# Altium integrated library Analog Devices Amplifiers and Linear Voltage References.IntLib: 547 symbols (part 9 of 20)
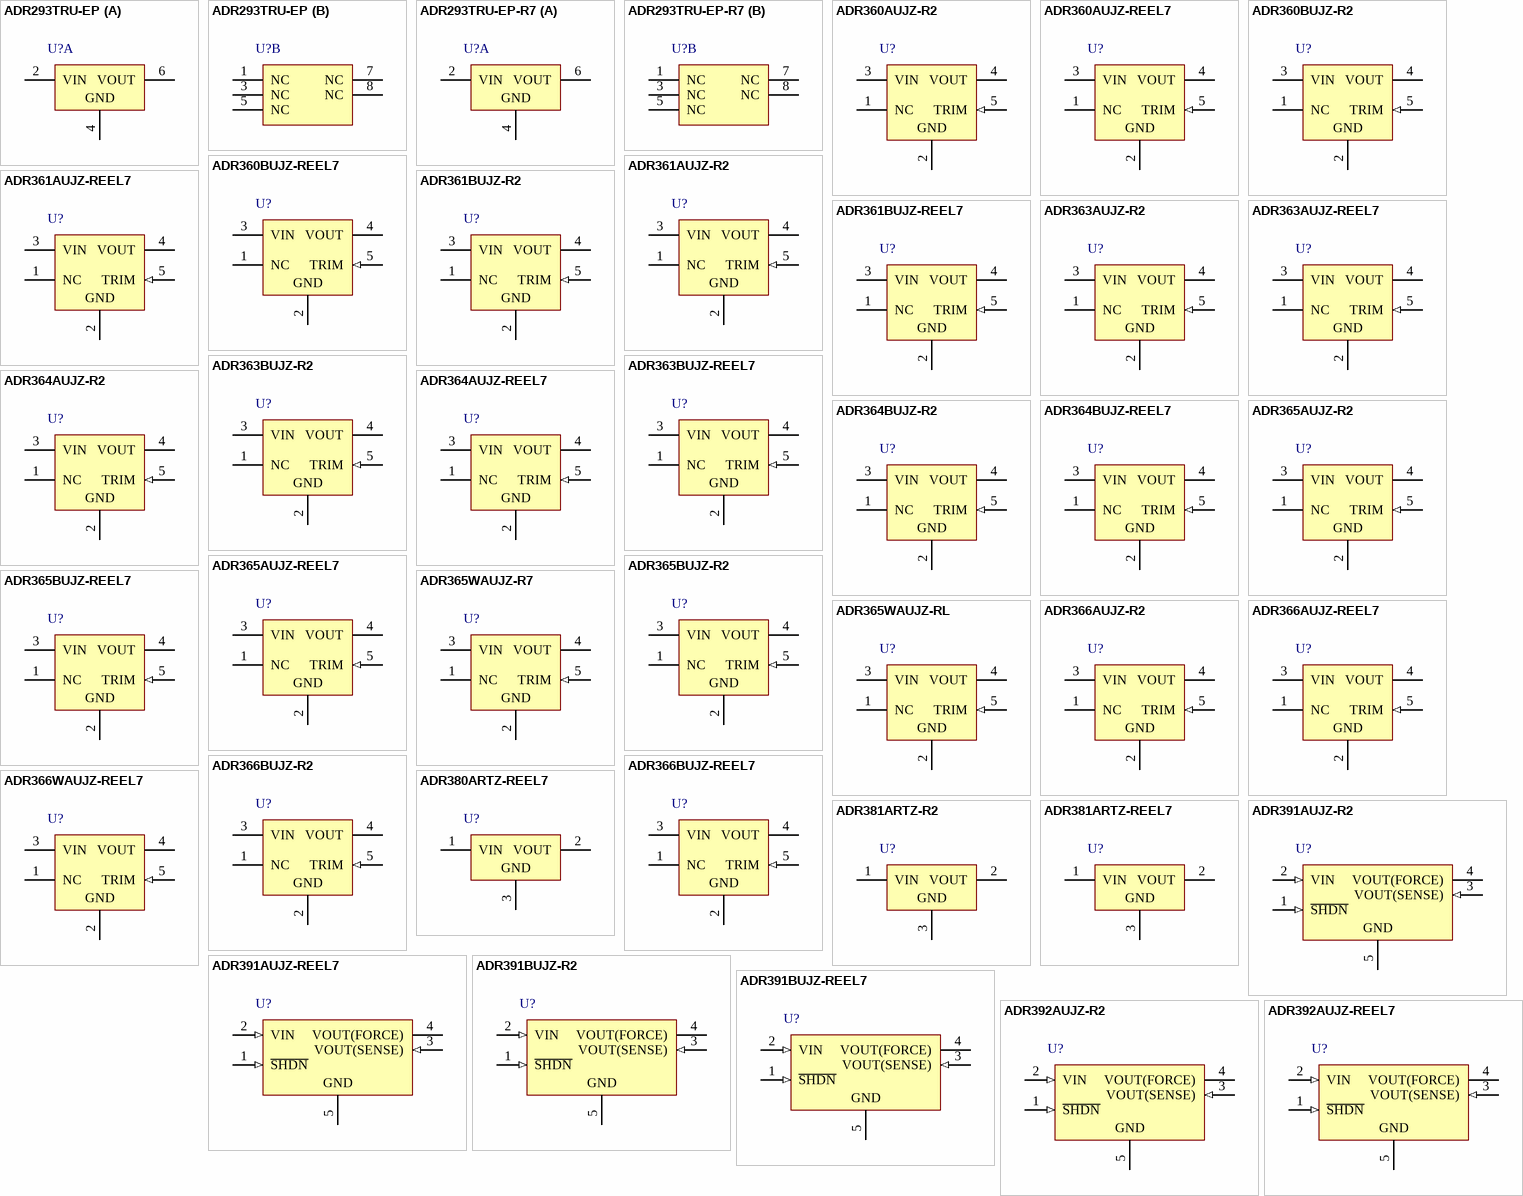
[diagram p28: symbols ADR293TRU-EP to ADR392AUJZ-REEL7]

## ADR366BUJZ-R2
designator U?
Low Power, Low Noise Voltage Reference with Sink / Source Capability, 3.3 V Output, 3.6 to 15 V Supply, Industrial, 5-pin SOT23 (UJ-5), Reel; Manufacturer: Analog Devices; PartNumber: ADR366BUJZ-R2; Automotive Qualified: Yes; Max V Supply (V): 15; Min V Supply (V): 3.6; Ref Out TC (ppm/C): 9; Vout: 3.3V; DatasheetVersion: Rev. D; PackageVersion: 100708-A, 10/2008; PackageReference: UJ-5; PackageDescription: 5-Pin Thin Small Outline Transistor Package, Body 2.9 x 1.6 mm, Pitch 0.95 mm; Supplier 1: Digi-Key; Supplier Part Number 1: ADR366BUJZ-R2TR-ND; Supplier 2: Digi-Key; Supplier Part Number 2: ADR366BUJZ-R2CT-ND; Supplier 3: Digi-Key; Supplier Part Number 3: ADR366BUJZ-R2DKR-ND; Supplier 4: Farnell; Supplier Part Number 4: 2377042; Supplier 5: Mouser; Supplier Part Number 5: 584-ADR366BUJZ-R2; Packing: Reel; Operating Temp Range: -40 to 125 degC; Mounting Technology: Surface Mount; Code_JEDEC: MO-193-AB; ComponentLink1Description: Manufacturer URL; ComponentLink1URL: http://www.analog.com/en/index.html; ComponentLink2Description: Datasheet; ComponentLink2URL: http://www.analog.com/static/imported-files/data_sheets/ADR360_361_363_364_365_366.pdf; ComponentLink3Description: Package Specification; ComponentLink3URL: http:/www.analog.com/static/imported-files/packages/PKG_PDF/TSOT(UJ)/UJ_5.pdf; ComponentLink4Description: URL Link1; ComponentLink4URL: Product URL:http://www.analog.com/en/special-linear-functions/voltage-references/adr366/products/product.html
footprint ADI-UJ-5_N (SOT23, 5-Leads, Body 2.9x1.6mm, Pitch 0.95mm, IPC Medium Density)
footprint ADI-UJ-5_L (SOT23, 5-Leads, Body 2.9x1.6mm, Pitch 0.95mm, IPC High Density)
footprint ADI-UJ-5_M (SOT23, 5-Leads, Body 2.9x1.6mm, Pitch 0.95mm, IPC Low Density)
pins: 1 NC, 2 GND (power), 3 VIN (power), 4 VOUT (power), 5 TRIM (in)

## ADR366BUJZ-REEL7
designator U?
Low Power, Low Noise Voltage Reference with Sink / Source Capability, 3.3 V Output, 3.6 to 15 V Supply, Industrial, 5-pin SOT23 (UJ-5), Reel; Manufacturer: Analog Devices; PartNumber: ADR366BUJZ-REEL7; Automotive Qualified: Yes; Max V Supply (V): 15; Min V Supply (V): 3.6; Ref Out TC (ppm/C): 9; Vout: 3.3V; DatasheetVersion: Rev. D; PackageVersion: 100708-A, 10/2008; PackageReference: UJ-5; PackageDescription: 5-Pin Thin Small Outline Transistor Package, Body 2.9 x 1.6 mm, Pitch 0.95 mm; Supplier 1: Digi-Key; Supplier Part Number 1: ADR366BUJZ-REEL7TR-ND; Supplier 2: Digi-Key; Supplier Part Number 2: ADR366BUJZ-REEL7CT-ND; Supplier 3: Digi-Key; Supplier Part Number 3: ADR366BUJZ-REEL7DKR-ND; Supplier 4: Mouser; Supplier Part Number 4: 584-ADR366BUJZ-R7; Packing: Reel; Operating Temp Range: -40 to 125 degC; Mounting Technology: Surface Mount; Code_JEDEC: MO-193-AB; ComponentLink1Description: Manufacturer URL; ComponentLink1URL: http://www.analog.com/en/index.html; ComponentLink2Description: Datasheet; ComponentLink2URL: http://www.analog.com/static/imported-files/data_sheets/ADR360_361_363_364_365_366.pdf; ComponentLink3Description: Package Specification; ComponentLink3URL: http:/www.analog.com/static/imported-files/packages/PKG_PDF/TSOT(UJ)/UJ_5.pdf; ComponentLink4Description: URL Link1; ComponentLink4URL: Product URL:http://www.analog.com/en/special-linear-functions/voltage-references/adr366/products/product.html
footprint ADI-UJ-5_N (SOT23, 5-Leads, Body 2.9x1.6mm, Pitch 0.95mm, IPC Medium Density)
footprint ADI-UJ-5_L (SOT23, 5-Leads, Body 2.9x1.6mm, Pitch 0.95mm, IPC High Density)
footprint ADI-UJ-5_M (SOT23, 5-Leads, Body 2.9x1.6mm, Pitch 0.95mm, IPC Low Density)
pins: 1 NC, 2 GND (power), 3 VIN (power), 4 VOUT (power), 5 TRIM (in)

## ADR366WAUJZ-REEL7
designator U?
Low Power, Low Noise Voltage Reference with Sink / Source Capability, 3.3 V Output, 3.6 to 15 V Supply, Automotive, 5-pin SOT23 (UJ-5), Reel; Manufacturer: Analog Devices; PartNumber: ADR366WAUJZ-REEL7; Automotive Qualified: Yes; Max V Supply (V): 15; Min V Supply (V): 3.6; Ref Out TC (ppm/C): 25; Vout: 3.3V; DatasheetVersion: Rev. D; PackageVersion: 100708-A, 10/2008; PackageReference: UJ-5; PackageDescription: 5-Pin Thin Small Outline Transistor Package, Body 2.9 x 1.6 mm, Pitch 0.95 mm; Supplier 1: Digi-Key; Supplier Part Number 1: ADR366WAUJZ-REEL7TR-ND; Supplier 2: Digi-Key; Supplier Part Number 2: ADR366WAUJZ-REEL7CT-ND; Supplier 3: Digi-Key; Supplier Part Number 3: ADR366WAUJZ-REEL7DKR-ND; Supplier 4: Mouser; Supplier Part Number 4: 584-ADR366WAUJZ-R7; Packing: Reel; Operating Temp Range: -40 to 125 degC; Mounting Technology: Surface Mount; Code_JEDEC: MO-193-AB; ComponentLink1Description: Manufacturer URL; ComponentLink1URL: http://www.analog.com/en/index.html; ComponentLink2Description: Datasheet; ComponentLink2URL: http://www.analog.com/static/imported-files/data_sheets/ADR360_361_363_364_365_366.pdf; ComponentLink3Description: Package Specification; ComponentLink3URL: http:/www.analog.com/static/imported-files/packages/PKG_PDF/TSOT(UJ)/UJ_5.pdf; ComponentLink4Description: URL Link1; ComponentLink4URL: Product URL:http://www.analog.com/en/special-linear-functions/voltage-references/adr366/products/product.html
footprint ADI-UJ-5_N (SOT23, 5-Leads, Body 2.9x1.6mm, Pitch 0.95mm, IPC Medium Density)
footprint ADI-UJ-5_L (SOT23, 5-Leads, Body 2.9x1.6mm, Pitch 0.95mm, IPC High Density)
footprint ADI-UJ-5_M (SOT23, 5-Leads, Body 2.9x1.6mm, Pitch 0.95mm, IPC Low Density)
pins: 1 NC, 2 GND (power), 3 VIN (power), 4 VOUT (power), 5 TRIM (in)

## ADR380ARTZ-REEL7
designator U?
Precision Low Drift Voltage Reference, 2.048 V Output, 2.4 to 18 V Supply, Industrial, 3-pin SOT23 (RT-3), Reel; Manufacturer: Analog Devices; PartNumber: ADR380ARTZ-REEL7; Max V Supply (V): 18; Min V Supply (V): 2.4; Ref Out TC (ppm/C): 5; Vout: 2.048; DatasheetVersion: Rev. C; PackageVersion: 011909-C, 02/2009; PackageReference: RT-3; PackageDescription: 3-Pin Small Outline Transistor Package, Body 2.9 x 1.3 mm, Pitch 0.96 mm; Supplier 1: Digi-Key; Supplier Part Number 1: ADR380ARTZ-REEL7TR-ND; Supplier 2: Digi-Key; Supplier Part Number 2: ADR380ARTZ-REEL7CT-ND; Supplier 3: Digi-Key; Supplier Part Number 3: ADR380ARTZ-REEL7DKR-ND; Supplier 4: Farnell; Supplier Part Number 4: 2377026; Supplier 5: Mouser; Supplier Part Number 5: 584-ADR380ARTZ-R7; Packing: Reel; Operating Temp Range: -40 to +85 degC; Mounting Technology: Surface Mount; Code_JEDEC: TO-236-AB; ComponentLink1Description: Manufacturer URL; ComponentLink1URL: http://www.analog.com/en/index.html; ComponentLink2Description: Datasheet; ComponentLink2URL: http://www.analog.com/static/imported-files/data_sheets/ADR380_381.pdf; ComponentLink3Description: Package Specification; ComponentLink3URL: http:/www.analog.com/static/imported-files/packages/PKG_PDF/SOT-23-3 (RT)/RT_3.pdf; ComponentLink4Description: URL Link1; ComponentLink4URL: Product URL:http://www.analog.com/en/special-linear-functions/voltage-references/adr380/products/product.html
footprint ADI-RT-3_N (SOT23, 3-Leads, Body 2.9x1.3mm, Pitch 0.96mm, IPC Medium Density)
footprint ADI-RT-3_L (SOT23, 3-Leads, Body 2.9x1.3mm, Pitch 0.96mm, IPC High Density)
footprint ADI-RT-3_M (SOT23, 3-Leads, Body 2.9x1.3mm, Pitch 0.96mm, IPC Low Density)
pins: 1 VIN (power), 2 VOUT (power), 3 GND (power)

## ADR381ARTZ-R2
designator U?
Precision Low Drift Voltage Reference, 2.5 V Output, 2.8 to 18 V Supply, Industrial, 3-pin SOT23 (RT-3), Reel; Manufacturer: Analog Devices; PartNumber: ADR381ARTZ-R2; Max V Supply (V): 18; Min V Supply (V): 2.8; Ref Out TC (ppm/C): 5; Vout: 2.5; DatasheetVersion: Rev. C; PackageVersion: 011909-C, 02/2009; PackageReference: RT-3; PackageDescription: 3-Pin Small Outline Transistor Package, Body 2.9 x 1.3 mm, Pitch 0.96 mm; Supplier 1: Digi-Key; Supplier Part Number 1: ADR381ARTZ-R2TR-ND; Supplier 2: Digi-Key; Supplier Part Number 2: ADR381ARTZ-R2CT-ND; Supplier 3: Digi-Key; Supplier Part Number 3: ADR381ARTZ-R2DKR-ND; Supplier 4: Farnell; Supplier Part Number 4: 2377037; Supplier 5: Mouser; Supplier Part Number 5: 584-ADR381ARTZ-R2; Packing: Reel; Operating Temp Range: -40 to +85 degC; Mounting Technology: Surface Mount; Code_JEDEC: TO-236-AB; ComponentLink1Description: Manufacturer URL; ComponentLink1URL: http://www.analog.com/en/index.html; ComponentLink2Description: Datasheet; ComponentLink2URL: http://www.analog.com/static/imported-files/data_sheets/ADR380_381.pdf; ComponentLink3Description: Package Specification; ComponentLink3URL: http:/www.analog.com/static/imported-files/packages/PKG_PDF/SOT-23-3 (RT)/RT_3.pdf; ComponentLink4Description: URL Link1; ComponentLink4URL: Product URL:http://www.analog.com/en/special-linear-functions/voltage-references/adr381/products/product.html
footprint ADI-RT-3_N (SOT23, 3-Leads, Body 2.9x1.3mm, Pitch 0.96mm, IPC Medium Density)
footprint ADI-RT-3_L (SOT23, 3-Leads, Body 2.9x1.3mm, Pitch 0.96mm, IPC High Density)
footprint ADI-RT-3_M (SOT23, 3-Leads, Body 2.9x1.3mm, Pitch 0.96mm, IPC Low Density)
pins: 1 VIN (power), 2 VOUT (power), 3 GND (power)

## ADR381ARTZ-REEL7
designator U?
Precision Low Drift Voltage Reference, 2.5 V Output, 2.8 to 18 V Supply, Industrial, 3-pin SOT23 (RT-3), Reel; Manufacturer: Analog Devices; PartNumber: ADR381ARTZ-REEL7; Max V Supply (V): 18; Min V Supply (V): 2.8; Ref Out TC (ppm/C): 5; Vout: 2.5; DatasheetVersion: Rev. C; PackageVersion: 011909-C, 02/2009; PackageReference: RT-3; PackageDescription: 3-Pin Small Outline Transistor Package, Body 2.9 x 1.3 mm, Pitch 0.96 mm; Supplier 1: Digi-Key; Supplier Part Number 1: ADR381ARTZ-REEL7TR-ND; Supplier 2: Digi-Key; Supplier Part Number 2: ADR381ARTZ-REEL7CT-ND; Supplier 3: Digi-Key; Supplier Part Number 3: ADR381ARTZ-REEL7DKR-ND; Supplier 4: Farnell; Supplier Part Number 4: 1651177; Supplier 5: Mouser; Supplier Part Number 5: 584-ADR381ARTZ-R7; Packing: Reel; Operating Temp Range: -40 to +85 degC; Mounting Technology: Surface Mount; Code_JEDEC: TO-236-AB; ComponentLink1Description: Manufacturer URL; ComponentLink1URL: http://www.analog.com/en/index.html; ComponentLink2Description: Datasheet; ComponentLink2URL: http://www.analog.com/static/imported-files/data_sheets/ADR380_381.pdf; ComponentLink3Description: Package Specification; ComponentLink3URL: http:/www.analog.com/static/imported-files/packages/PKG_PDF/SOT-23-3 (RT)/RT_3.pdf; ComponentLink4Description: URL Link1; ComponentLink4URL: Product URL:http://www.analog.com/en/special-linear-functions/voltage-references/adr381/products/product.html
footprint ADI-RT-3_N (SOT23, 3-Leads, Body 2.9x1.3mm, Pitch 0.96mm, IPC Medium Density)
footprint ADI-RT-3_L (SOT23, 3-Leads, Body 2.9x1.3mm, Pitch 0.96mm, IPC High Density)
footprint ADI-RT-3_M (SOT23, 3-Leads, Body 2.9x1.3mm, Pitch 0.96mm, IPC Low Density)
pins: 1 VIN (power), 2 VOUT (power), 3 GND (power)

## ADR391AUJZ-R2
designator U?
Micropower, Low Noise Precision Voltage Reference with Shutdown, 2.5 V Output, 2.8 to 15 V Supply, Industrial, 5-pin SOT23 (UJ-5), Reel; Manufacturer: Analog Devices; PartNumber: ADR391AUJZ-R2; Max V Supply (V): 15; Min V Supply (V): 2.8; Ref Out TC (ppm/C): 25; Vout: 2.5; DatasheetVersion: Rev. H; PackageVersion: 100708-A, 10/2008; PackageReference: UJ-5; PackageDescription: 5-Pin Thin Small Outline Transistor Package, Body 2.9 x 1.6 mm, Pitch 0.95 mm; Supplier 1: Digi-Key; Supplier Part Number 1: ADR391AUJZ-R2TR-ND; Supplier 2: Digi-Key; Supplier Part Number 2: ADR391AUJZ-R2CT-ND; Supplier 3: Digi-Key; Supplier Part Number 3: ADR391AUJZ-R2DKR-ND; Supplier 4: Farnell; Supplier Part Number 4: 2377035; Supplier 5: Mouser; Supplier Part Number 5: 584-ADR391AUJZ-R2; Packing: Reel; Operating Temp Range: -40 to 125 degC; Mounting Technology: Surface Mount; Code_JEDEC: MO-193-AB; ComponentLink1Description: Manufacturer URL; ComponentLink1URL: http://www.analog.com/en/index.html; ComponentLink2Description: Datasheet; ComponentLink2URL: http://www.analog.com/static/imported-files/data_sheets/ADR391_392_395.pdf; ComponentLink3Description: Package Specification; ComponentLink3URL: http:/www.analog.com/static/imported-files/packages/PKG_PDF/TSOT(UJ)/UJ_5.pdf; ComponentLink4Description: URL Link1; ComponentLink4URL: Product URL:http://www.analog.com/en/special-linear-functions/voltage-references/adr391/products/product.html
footprint ADI-UJ-5_N (SOT23, 5-Leads, Body 2.9x1.6mm, Pitch 0.95mm, IPC Medium Density)
footprint ADI-UJ-5_L (SOT23, 5-Leads, Body 2.9x1.6mm, Pitch 0.95mm, IPC High Density)
footprint ADI-UJ-5_M (SOT23, 5-Leads, Body 2.9x1.6mm, Pitch 0.95mm, IPC Low Density)
pins: 1 ~{SHDN} (in), 2 VIN (in), 3 VOUT(SENSE) (in), 4 VOUT(FORCE) (hiz), 5 GND (power)

## ADR391AUJZ-REEL7
designator U?
Micropower, Low Noise Precision Voltage Reference with Shutdown, 2.5 V Output, 2.8 to 15 V Supply, Industrial, 5-pin SOT23 (UJ-5), Reel; Manufacturer: Analog Devices; PartNumber: ADR391AUJZ-REEL7; Max V Supply (V): 15; Min V Supply (V): 2.8; Ref Out TC (ppm/C): 25; Vout: 2.5; DatasheetVersion: Rev. H; PackageVersion: 100708-A, 10/2008; PackageReference: UJ-5; PackageDescription: 5-Pin Thin Small Outline Transistor Package, Body 2.9 x 1.6 mm, Pitch 0.95 mm; Supplier 1: Digi-Key; Supplier Part Number 1: ADR391AUJZREEL7TR-ND; Supplier 2: Digi-Key; Supplier Part Number 2: ADR391AUJZREEL7CT-ND; Supplier 3: Digi-Key; Supplier Part Number 3: ADR391AUJZREEL7DKR-ND; Supplier 4: Farnell; Supplier Part Number 4: 1424495; Supplier 5: Mouser; Supplier Part Number 5: 584-ADR391AUJZ-R7; Packing: Reel; Operating Temp Range: -40 to 125 degC; Mounting Technology: Surface Mount; Code_JEDEC: MO-193-AB; ComponentLink1Description: Manufacturer URL; ComponentLink1URL: http://www.analog.com/en/index.html; ComponentLink2Description: Datasheet; ComponentLink2URL: http://www.analog.com/static/imported-files/data_sheets/ADR391_392_395.pdf; ComponentLink3Description: Package Specification; ComponentLink3URL: http:/www.analog.com/static/imported-files/packages/PKG_PDF/TSOT(UJ)/UJ_5.pdf; ComponentLink4Description: URL Link1; ComponentLink4URL: Product URL:http://www.analog.com/en/special-linear-functions/voltage-references/adr391/products/product.html
footprint ADI-UJ-5_N (SOT23, 5-Leads, Body 2.9x1.6mm, Pitch 0.95mm, IPC Medium Density)
footprint ADI-UJ-5_L (SOT23, 5-Leads, Body 2.9x1.6mm, Pitch 0.95mm, IPC High Density)
footprint ADI-UJ-5_M (SOT23, 5-Leads, Body 2.9x1.6mm, Pitch 0.95mm, IPC Low Density)
pins: 1 ~{SHDN} (in), 2 VIN (in), 3 VOUT(SENSE) (in), 4 VOUT(FORCE) (hiz), 5 GND (power)

## ADR391BUJZ-R2
designator U?
Micropower, Low Noise Precision Voltage Reference with Shutdown, 2.5 V Output, 2.8 to 15 V Supply, Industrial, 5-pin SOT23 (UJ-5), Reel; Manufacturer: Analog Devices; PartNumber: ADR391BUJZ-R2; Max V Supply (V): 15; Min V Supply (V): 2.8; Ref Out TC (ppm/C): 9; Vout: 2.5; DatasheetVersion: Rev. H; PackageVersion: 100708-A, 10/2008; PackageReference: UJ-5; PackageDescription: 5-Pin Thin Small Outline Transistor Package, Body 2.9 x 1.6 mm, Pitch 0.95 mm; Supplier 1: Digi-Key; Supplier Part Number 1: ADR391BUJZ-R2TR-ND; Supplier 2: Digi-Key; Supplier Part Number 2: ADR391BUJZ-R2CT-ND; Supplier 3: Digi-Key; Supplier Part Number 3: ADR391BUJZ-R2DKR-ND; Supplier 4: Farnell; Supplier Part Number 4: 1651320RL; Supplier 5: Farnell; Supplier Part Number 5: 1651320; Supplier 6: Mouser; Supplier Part Number 6: 584-ADR391BUJZ-R2; Packing: Reel; Operating Temp Range: -40 to 125 degC; Mounting Technology: Surface Mount; Code_JEDEC: MO-193-AB; ComponentLink1Description: Manufacturer URL; ComponentLink1URL: http://www.analog.com/en/index.html; ComponentLink2Description: Datasheet; ComponentLink2URL: http://www.analog.com/static/imported-files/data_sheets/ADR391_392_395.pdf; ComponentLink3Description: Package Specification; ComponentLink3URL: http:/www.analog.com/static/imported-files/packages/PKG_PDF/TSOT(UJ)/UJ_5.pdf; ComponentLink4Description: URL Link1; ComponentLink4URL: Product URL:http://www.analog.com/en/special-linear-functions/voltage-references/adr391/products/product.html
footprint ADI-UJ-5_N (SOT23, 5-Leads, Body 2.9x1.6mm, Pitch 0.95mm, IPC Medium Density)
footprint ADI-UJ-5_L (SOT23, 5-Leads, Body 2.9x1.6mm, Pitch 0.95mm, IPC High Density)
footprint ADI-UJ-5_M (SOT23, 5-Leads, Body 2.9x1.6mm, Pitch 0.95mm, IPC Low Density)
pins: 1 ~{SHDN} (in), 2 VIN (in), 3 VOUT(SENSE) (in), 4 VOUT(FORCE) (hiz), 5 GND (power)

## ADR391BUJZ-REEL7
designator U?
Micropower, Low Noise Precision Voltage Reference with Shutdown, 2.5 V Output, 2.8 to 15 V Supply, Industrial, 5-pin SOT23 (UJ-5), Reel; Manufacturer: Analog Devices; PartNumber: ADR391BUJZ-REEL7; Max V Supply (V): 15; Min V Supply (V): 2.8; Ref Out TC (ppm/C): 9; Vout: 2.5; DatasheetVersion: Rev. H; PackageVersion: 100708-A, 10/2008; PackageReference: UJ-5; PackageDescription: 5-Pin Thin Small Outline Transistor Package, Body 2.9 x 1.6 mm, Pitch 0.95 mm; Supplier 1: Digi-Key; Supplier Part Number 1: ADR391BUJZREEL7TR-ND; Supplier 2: Digi-Key; Supplier Part Number 2: ADR391BUJZREEL7CT-ND; Supplier 3: Digi-Key; Supplier Part Number 3: ADR391BUJZREEL7DKR-ND; Supplier 4: Mouser; Supplier Part Number 4: 584-ADR391BUJZ-R7; Packing: Reel; Operating Temp Range: -40 to 125 degC; Mounting Technology: Surface Mount; Code_JEDEC: MO-193-AB; ComponentLink1Description: Manufacturer URL; ComponentLink1URL: http://www.analog.com/en/index.html; ComponentLink2Description: Datasheet; ComponentLink2URL: http://www.analog.com/static/imported-files/data_sheets/ADR391_392_395.pdf; ComponentLink3Description: Package Specification; ComponentLink3URL: http:/www.analog.com/static/imported-files/packages/PKG_PDF/TSOT(UJ)/UJ_5.pdf; ComponentLink4Description: URL Link1; ComponentLink4URL: Product URL:http://www.analog.com/en/special-linear-functions/voltage-references/adr391/products/product.html
footprint ADI-UJ-5_N (SOT23, 5-Leads, Body 2.9x1.6mm, Pitch 0.95mm, IPC Medium Density)
footprint ADI-UJ-5_L (SOT23, 5-Leads, Body 2.9x1.6mm, Pitch 0.95mm, IPC High Density)
footprint ADI-UJ-5_M (SOT23, 5-Leads, Body 2.9x1.6mm, Pitch 0.95mm, IPC Low Density)
pins: 1 ~{SHDN} (in), 2 VIN (in), 3 VOUT(SENSE) (in), 4 VOUT(FORCE) (hiz), 5 GND (power)

## ADR392AUJZ-R2
designator U?
Micropower, Low Noise Precision Voltage Reference with Shutdown, 4.096 V Output, 4.3 to 15 V Supply, Industrial, 5-pin SOT23 (UJ-5), Reel; Manufacturer: Analog Devices; PartNumber: ADR392AUJZ-R2; Automotive Qualified: Yes; Max V Supply (V): 15; Min V Supply (V): 4.3; Ref Out TC (ppm/C): 25; Vout: 4.096V; DatasheetVersion: Rev. H; PackageVersion: 100708-A, 10/2008; PackageReference: UJ-5; PackageDescription: 5-Pin Thin Small Outline Transistor Package, Body 2.9 x 1.6 mm, Pitch 0.95 mm; Supplier 1: Digi-Key; Supplier Part Number 1: ADR392AUJZ-R2TR-ND; Supplier 2: Digi-Key; Supplier Part Number 2: ADR392AUJZ-R2CT-ND; Supplier 3: Digi-Key; Supplier Part Number 3: ADR392AUJZ-R2DKR-ND; Supplier 4: Farnell; Supplier Part Number 4: 2377036; Supplier 5: Mouser; Supplier Part Number 5: 584-ADR392AUJZ-R2; Packing: Reel; Operating Temp Range: -40 to 125 degC; Mounting Technology: Surface Mount; Code_JEDEC: MO-193-AB; ComponentLink1Description: Manufacturer URL; ComponentLink1URL: http://www.analog.com/en/index.html; ComponentLink2Description: Datasheet; ComponentLink2URL: http://www.analog.com/static/imported-files/data_sheets/ADR391_392_395.pdf; ComponentLink3Description: Package Specification; ComponentLink3URL: http:/www.analog.com/static/imported-files/packages/PKG_PDF/TSOT(UJ)/UJ_5.pdf; ComponentLink4Description: URL Link1; ComponentLink4URL: Product URL:http://www.analog.com/en/special-linear-functions/voltage-references/adr392/products/product.html
footprint ADI-UJ-5_N (SOT23, 5-Leads, Body 2.9x1.6mm, Pitch 0.95mm, IPC Medium Density)
footprint ADI-UJ-5_L (SOT23, 5-Leads, Body 2.9x1.6mm, Pitch 0.95mm, IPC High Density)
footprint ADI-UJ-5_M (SOT23, 5-Leads, Body 2.9x1.6mm, Pitch 0.95mm, IPC Low Density)
pins: 1 ~{SHDN} (in), 2 VIN (in), 3 VOUT(SENSE) (in), 4 VOUT(FORCE) (hiz), 5 GND (power)

## ADR392AUJZ-REEL7
designator U?
Micropower, Low Noise Precision Voltage Reference with Shutdown, 4.096 V Output, 4.3 to 15 V Supply, Industrial, 5-pin SOT23 (UJ-5), Reel; Manufacturer: Analog Devices; PartNumber: ADR392AUJZ-REEL7; Automotive Qualified: Yes; Max V Supply (V): 15; Min V Supply (V): 4.3; Ref Out TC (ppm/C): 25; Vout: 4.096V; DatasheetVersion: Rev. H; PackageVersion: 100708-A, 10/2008; PackageReference: UJ-5; PackageDescription: 5-Pin Thin Small Outline Transistor Package, Body 2.9 x 1.6 mm, Pitch 0.95 mm; Supplier 1: Digi-Key; Supplier Part Number 1: ADR392AUJZREEL7TR-ND; Supplier 2: Digi-Key; Supplier Part Number 2: ADR392AUJZREEL7CT-ND; Supplier 3: Digi-Key; Supplier Part Number 3: ADR392AUJZREEL7DKR-ND; Supplier 4: Mouser; Supplier Part Number 4: 584-ADR392AUJZ-R7; Packing: Reel; Operating Temp Range: -40 to 125 degC; Mounting Technology: Surface Mount; Code_JEDEC: MO-193-AB; ComponentLink1Description: Manufacturer URL; ComponentLink1URL: http://www.analog.com/en/index.html; ComponentLink2Description: Datasheet; ComponentLink2URL: http://www.analog.com/static/imported-files/data_sheets/ADR391_392_395.pdf; ComponentLink3Description: Package Specification; ComponentLink3URL: http:/www.analog.com/static/imported-files/packages/PKG_PDF/TSOT(UJ)/UJ_5.pdf; ComponentLink4Description: URL Link1; ComponentLink4URL: Product URL:http://www.analog.com/en/special-linear-functions/voltage-references/adr392/products/product.html
footprint ADI-UJ-5_N (SOT23, 5-Leads, Body 2.9x1.6mm, Pitch 0.95mm, IPC Medium Density)
footprint ADI-UJ-5_L (SOT23, 5-Leads, Body 2.9x1.6mm, Pitch 0.95mm, IPC High Density)
footprint ADI-UJ-5_M (SOT23, 5-Leads, Body 2.9x1.6mm, Pitch 0.95mm, IPC Low Density)
pins: 1 ~{SHDN} (in), 2 VIN (in), 3 VOUT(SENSE) (in), 4 VOUT(FORCE) (hiz), 5 GND (power)

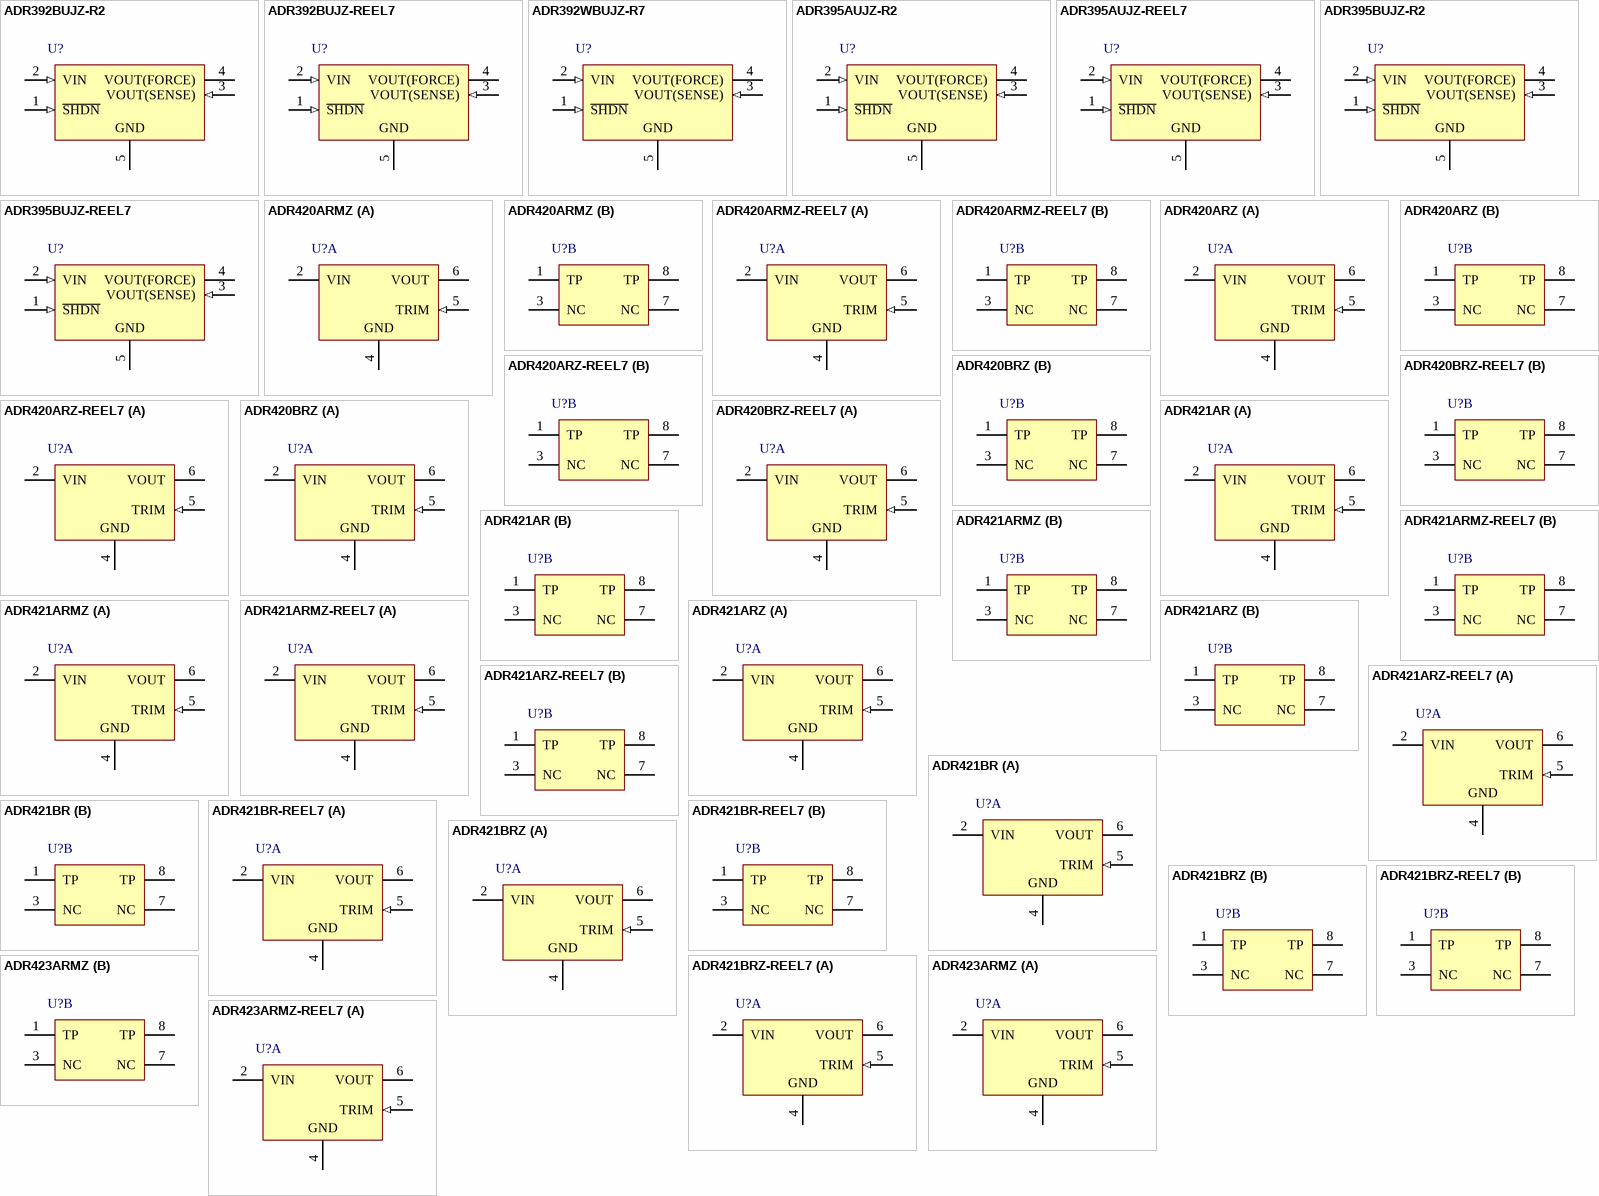
[diagram p9: symbols ADR392BUJZ-R2 to ADR423ARMZ-REEL7]

## ADR392BUJZ-R2
designator U?
Micropower, Low Noise Precision Voltage Reference with Shutdown, 4.096 V Output, 4.3 to 15 V Supply, Industrial, 5-pin SOT23 (UJ-5), Reel; Manufacturer: Analog Devices; PartNumber: ADR392BUJZ-R2; Automotive Qualified: Yes; Max V Supply (V): 15; Min V Supply (V): 4.3; Ref Out TC (ppm/C): 9; Vout: 4.096V; DatasheetVersion: Rev. H; PackageVersion: 100708-A, 10/2008; PackageReference: UJ-5; PackageDescription: 5-Pin Thin Small Outline Transistor Package, Body 2.9 x 1.6 mm, Pitch 0.95 mm; Supplier 1: Digi-Key; Supplier Part Number 1: ADR392BUJZ-R2TR-ND; Supplier 2: Digi-Key; Supplier Part Number 2: ADR392BUJZ-R2CT-ND; Supplier 3: Digi-Key; Supplier Part Number 3: ADR392BUJZ-R2DKR-ND; Supplier 4: Farnell; Supplier Part Number 4: 2377046; Supplier 5: Mouser; Supplier Part Number 5: 584-ADR392BUJZ-R2; Packing: Reel; Operating Temp Range: -40 to 125 degC; Mounting Technology: Surface Mount; Code_JEDEC: MO-193-AB; ComponentLink1Description: Manufacturer URL; ComponentLink1URL: http://www.analog.com/en/index.html; ComponentLink2Description: Datasheet; ComponentLink2URL: http://www.analog.com/static/imported-files/data_sheets/ADR391_392_395.pdf; ComponentLink3Description: Package Specification; ComponentLink3URL: http:/www.analog.com/static/imported-files/packages/PKG_PDF/TSOT(UJ)/UJ_5.pdf; ComponentLink4Description: URL Link1; ComponentLink4URL: Product URL:http://www.analog.com/en/special-linear-functions/voltage-references/adr392/products/product.html
footprint ADI-UJ-5_N (SOT23, 5-Leads, Body 2.9x1.6mm, Pitch 0.95mm, IPC Medium Density)
footprint ADI-UJ-5_L (SOT23, 5-Leads, Body 2.9x1.6mm, Pitch 0.95mm, IPC High Density)
footprint ADI-UJ-5_M (SOT23, 5-Leads, Body 2.9x1.6mm, Pitch 0.95mm, IPC Low Density)
pins: 1 ~{SHDN} (in), 2 VIN (in), 3 VOUT(SENSE) (in), 4 VOUT(FORCE) (hiz), 5 GND (power)

## ADR392BUJZ-REEL7
designator U?
Micropower, Low Noise Precision Voltage Reference with Shutdown, 4.096 V Output, 4.3 to 15 V Supply, Industrial, 5-pin SOT23 (UJ-5), Reel; Manufacturer: Analog Devices; PartNumber: ADR392BUJZ-REEL7; Automotive Qualified: Yes; Max V Supply (V): 15; Min V Supply (V): 4.3; Ref Out TC (ppm/C): 9; Vout: 4.096V; DatasheetVersion: Rev. H; PackageVersion: 100708-A, 10/2008; PackageReference: UJ-5; PackageDescription: 5-Pin Thin Small Outline Transistor Package, Body 2.9 x 1.6 mm, Pitch 0.95 mm; Supplier 1: Digi-Key; Supplier Part Number 1: ADR392BUJZREEL7TR-ND; Supplier 2: Digi-Key; Supplier Part Number 2: ADR392BUJZREEL7CT-ND; Supplier 3: Digi-Key; Supplier Part Number 3: ADR392BUJZREEL7DKR-ND; Supplier 4: Mouser; Supplier Part Number 4: 584-ADR392BUJZ-R7; Packing: Reel; Operating Temp Range: -40 to 125 degC; Mounting Technology: Surface Mount; Code_JEDEC: MO-193-AB; ComponentLink1Description: Manufacturer URL; ComponentLink1URL: http://www.analog.com/en/index.html; ComponentLink2Description: Datasheet; ComponentLink2URL: http://www.analog.com/static/imported-files/data_sheets/ADR391_392_395.pdf; ComponentLink3Description: Package Specification; ComponentLink3URL: http:/www.analog.com/static/imported-files/packages/PKG_PDF/TSOT(UJ)/UJ_5.pdf; ComponentLink4Description: URL Link1; ComponentLink4URL: Product URL:http://www.analog.com/en/special-linear-functions/voltage-references/adr392/products/product.html
footprint ADI-UJ-5_N (SOT23, 5-Leads, Body 2.9x1.6mm, Pitch 0.95mm, IPC Medium Density)
footprint ADI-UJ-5_L (SOT23, 5-Leads, Body 2.9x1.6mm, Pitch 0.95mm, IPC High Density)
footprint ADI-UJ-5_M (SOT23, 5-Leads, Body 2.9x1.6mm, Pitch 0.95mm, IPC Low Density)
pins: 1 ~{SHDN} (in), 2 VIN (in), 3 VOUT(SENSE) (in), 4 VOUT(FORCE) (hiz), 5 GND (power)

## ADR392WBUJZ-R7
designator U?
Micropower, Low Noise Precision Voltage Reference with Shutdown, 4.096 V Output, 4.3 to 15 V Supply, Automotive, 5-pin SOT23 (UJ-5), Reel; Manufacturer: Analog Devices; PartNumber: ADR392WBUJZ-R7; Automotive Qualified: Yes; Max V Supply (V): 15; Min V Supply (V): 4.3; Ref Out TC (ppm/C): 9; Vout: 4.096V; DatasheetVersion: Rev. H; PackageVersion: 100708-A, 10/2008; PackageReference: UJ-5; PackageDescription: 5-Pin Thin Small Outline Transistor Package, Body 2.9 x 1.6 mm, Pitch 0.95 mm; Supplier 1: Digi-Key; Supplier Part Number 1: ADR392WBUJZ-R7TR-ND; Supplier 2: Digi-Key; Supplier Part Number 2: ADR392WBUJZ-R7CT-ND; Supplier 3: Digi-Key; Supplier Part Number 3: ADR392WBUJZ-R7DKR-ND; Supplier 4: Mouser; Supplier Part Number 4: 584-ADR392WBUJZ-R7; Packing: Reel; Operating Temp Range: -40 to 125 degC; Mounting Technology: Surface Mount; Code_JEDEC: MO-193-AB; ComponentLink1Description: Manufacturer URL; ComponentLink1URL: http://www.analog.com/en/index.html; ComponentLink2Description: Datasheet; ComponentLink2URL: http://www.analog.com/static/imported-files/data_sheets/ADR391_392_395.pdf; ComponentLink3Description: Package Specification; ComponentLink3URL: http:/www.analog.com/static/imported-files/packages/PKG_PDF/TSOT(UJ)/UJ_5.pdf; ComponentLink4Description: URL Link1; ComponentLink4URL: Product URL:http://www.analog.com/en/special-linear-functions/voltage-references/adr392/products/product.html
footprint ADI-UJ-5_N (SOT23, 5-Leads, Body 2.9x1.6mm, Pitch 0.95mm, IPC Medium Density)
footprint ADI-UJ-5_L (SOT23, 5-Leads, Body 2.9x1.6mm, Pitch 0.95mm, IPC High Density)
footprint ADI-UJ-5_M (SOT23, 5-Leads, Body 2.9x1.6mm, Pitch 0.95mm, IPC Low Density)
pins: 1 ~{SHDN} (in), 2 VIN (in), 3 VOUT(SENSE) (in), 4 VOUT(FORCE) (hiz), 5 GND (power)

## ADR395AUJZ-R2
designator U?
Micropower, Low Noise Precision Voltage Reference with Shutdown, 5 V Output, 5.3 to 15 V Supply, Industrial, 5-pin SOT23 (UJ-5), Reel; Manufacturer: Analog Devices; PartNumber: ADR395AUJZ-R2; Max V Supply (V): 15; Min V Supply (V): 5.3; Ref Out TC (ppm/C): 25; Vout: 5V; DatasheetVersion: Rev. H; PackageVersion: 100708-A, 10/2008; PackageReference: UJ-5; PackageDescription: 5-Pin Thin Small Outline Transistor Package, Body 2.9 x 1.6 mm, Pitch 0.95 mm; Supplier 1: Digi-Key; Supplier Part Number 1: ADR395AUJZ-R2TR-ND; Supplier 2: Digi-Key; Supplier Part Number 2: ADR395AUJZ-R2CT-ND; Supplier 3: Digi-Key; Supplier Part Number 3: ADR395AUJZ-R2DKR-ND; Supplier 4: Farnell; Supplier Part Number 4: 1319326; Supplier 5: Farnell; Supplier Part Number 5: 2112643; Supplier 6: Mouser; Supplier Part Number 6: 584-ADR395AUJZ-R2; Packing: Reel; Operating Temp Range: -40 to 125 degC; Mounting Technology: Surface Mount; Code_JEDEC: MO-193-AB; ComponentLink1Description: Manufacturer URL; ComponentLink1URL: http://www.analog.com/en/index.html; ComponentLink2Description: Datasheet; ComponentLink2URL: http://www.analog.com/static/imported-files/data_sheets/ADR391_392_395.pdf; ComponentLink3Description: Package Specification; ComponentLink3URL: http:/www.analog.com/static/imported-files/packages/PKG_PDF/TSOT(UJ)/UJ_5.pdf; ComponentLink4Description: URL Link1; ComponentLink4URL: Product URL:http://www.analog.com/en/special-linear-functions/voltage-references/adr395/products/product.html
footprint ADI-UJ-5_N (SOT23, 5-Leads, Body 2.9x1.6mm, Pitch 0.95mm, IPC Medium Density)
footprint ADI-UJ-5_L (SOT23, 5-Leads, Body 2.9x1.6mm, Pitch 0.95mm, IPC High Density)
footprint ADI-UJ-5_M (SOT23, 5-Leads, Body 2.9x1.6mm, Pitch 0.95mm, IPC Low Density)
pins: 1 ~{SHDN} (in), 2 VIN (in), 3 VOUT(SENSE) (in), 4 VOUT(FORCE) (hiz), 5 GND (power)

## ADR395AUJZ-REEL7
designator U?
Micropower, Low Noise Precision Voltage Reference with Shutdown, 5 V Output, 5.3 to 15 V Supply, Industrial, 5-pin SOT23 (UJ-5), Reel; Manufacturer: Analog Devices; PartNumber: ADR395AUJZ-REEL7; Max V Supply (V): 15; Min V Supply (V): 5.3; Ref Out TC (ppm/C): 25; Vout: 5V; DatasheetVersion: Rev. H; PackageVersion: 100708-A, 10/2008; PackageReference: UJ-5; PackageDescription: 5-Pin Thin Small Outline Transistor Package, Body 2.9 x 1.6 mm, Pitch 0.95 mm; Supplier 1: Digi-Key; Supplier Part Number 1: ADR395AUJZREEL7TR-ND; Supplier 2: Digi-Key; Supplier Part Number 2: ADR395AUJZREEL7CT-ND; Supplier 3: Digi-Key; Supplier Part Number 3: ADR395AUJZREEL7DKR-ND; Supplier 4: Mouser; Supplier Part Number 4: 584-ADR395AUJZ-R7; Packing: Reel; Operating Temp Range: -40 to 125 degC; Mounting Technology: Surface Mount; Code_JEDEC: MO-193-AB; ComponentLink1Description: Manufacturer URL; ComponentLink1URL: http://www.analog.com/en/index.html; ComponentLink2Description: Datasheet; ComponentLink2URL: http://www.analog.com/static/imported-files/data_sheets/ADR391_392_395.pdf; ComponentLink3Description: Package Specification; ComponentLink3URL: http:/www.analog.com/static/imported-files/packages/PKG_PDF/TSOT(UJ)/UJ_5.pdf; ComponentLink4Description: URL Link1; ComponentLink4URL: Product URL:http://www.analog.com/en/special-linear-functions/voltage-references/adr395/products/product.html
footprint ADI-UJ-5_N (SOT23, 5-Leads, Body 2.9x1.6mm, Pitch 0.95mm, IPC Medium Density)
footprint ADI-UJ-5_L (SOT23, 5-Leads, Body 2.9x1.6mm, Pitch 0.95mm, IPC High Density)
footprint ADI-UJ-5_M (SOT23, 5-Leads, Body 2.9x1.6mm, Pitch 0.95mm, IPC Low Density)
pins: 1 ~{SHDN} (in), 2 VIN (in), 3 VOUT(SENSE) (in), 4 VOUT(FORCE) (hiz), 5 GND (power)

## ADR395BUJZ-R2
designator U?
Micropower, Low Noise Precision Voltage Reference with Shutdown, 5 V Output, 5.3 to 15 V Supply, Industrial, 5-pin SOT23 (UJ-5), Reel; Manufacturer: Analog Devices; PartNumber: ADR395BUJZ-R2; Max V Supply (V): 15; Min V Supply (V): 5.3; Ref Out TC (ppm/C): 9; Vout: 5V; DatasheetVersion: Rev. H; PackageVersion: 100708-A, 10/2008; PackageReference: UJ-5; PackageDescription: 5-Pin Thin Small Outline Transistor Package, Body 2.9 x 1.6 mm, Pitch 0.95 mm; Supplier 1: Digi-Key; Supplier Part Number 1: ADR395BUJZ-R2TR-ND; Supplier 2: Digi-Key; Supplier Part Number 2: ADR395BUJZ-R2CT-ND; Supplier 3: Digi-Key; Supplier Part Number 3: ADR395BUJZ-R2DKR-ND; Supplier 4: Farnell; Supplier Part Number 4: 1319327; Supplier 5: Mouser; Supplier Part Number 5: 584-ADR395BUJZ-R2; Packing: Reel; Operating Temp Range: -40 to 125 degC; Mounting Technology: Surface Mount; Code_JEDEC: MO-193-AB; ComponentLink1Description: Manufacturer URL; ComponentLink1URL: http://www.analog.com/en/index.html; ComponentLink2Description: Datasheet; ComponentLink2URL: http://www.analog.com/static/imported-files/data_sheets/ADR391_392_395.pdf; ComponentLink3Description: Package Specification; ComponentLink3URL: http:/www.analog.com/static/imported-files/packages/PKG_PDF/TSOT(UJ)/UJ_5.pdf; ComponentLink4Description: URL Link1; ComponentLink4URL: Product URL:http://www.analog.com/en/special-linear-functions/voltage-references/adr395/products/product.html
footprint ADI-UJ-5_N (SOT23, 5-Leads, Body 2.9x1.6mm, Pitch 0.95mm, IPC Medium Density)
footprint ADI-UJ-5_L (SOT23, 5-Leads, Body 2.9x1.6mm, Pitch 0.95mm, IPC High Density)
footprint ADI-UJ-5_M (SOT23, 5-Leads, Body 2.9x1.6mm, Pitch 0.95mm, IPC Low Density)
pins: 1 ~{SHDN} (in), 2 VIN (in), 3 VOUT(SENSE) (in), 4 VOUT(FORCE) (hiz), 5 GND (power)

## ADR395BUJZ-REEL7
designator U?
Micropower, Low Noise Precision Voltage Reference with Shutdown, 5 V Output, 5.3 to 15 V Supply, Industrial, 5-pin SOT23 (UJ-5), Reel; Manufacturer: Analog Devices; PartNumber: ADR395BUJZ-REEL7; Max V Supply (V): 15; Min V Supply (V): 5.3; Ref Out TC (ppm/C): 9; Vout: 5V; DatasheetVersion: Rev. H; PackageVersion: 100708-A, 10/2008; PackageReference: UJ-5; PackageDescription: 5-Pin Thin Small Outline Transistor Package, Body 2.9 x 1.6 mm, Pitch 0.95 mm; Supplier 1: Digi-Key; Supplier Part Number 1: ADR395BUJZREEL7TR-ND; Supplier 2: Digi-Key; Supplier Part Number 2: ADR395BUJZREEL7CT-ND; Supplier 3: Digi-Key; Supplier Part Number 3: ADR395BUJZREEL7DKR-ND; Supplier 4: Mouser; Supplier Part Number 4: 584-ADR395BUJZ-R7; Packing: Reel; Operating Temp Range: -40 to 125 degC; Mounting Technology: Surface Mount; Code_JEDEC: MO-193-AB; ComponentLink1Description: Manufacturer URL; ComponentLink1URL: http://www.analog.com/en/index.html; ComponentLink2Description: Datasheet; ComponentLink2URL: http://www.analog.com/static/imported-files/data_sheets/ADR391_392_395.pdf; ComponentLink3Description: Package Specification; ComponentLink3URL: http:/www.analog.com/static/imported-files/packages/PKG_PDF/TSOT(UJ)/UJ_5.pdf; ComponentLink4Description: URL Link1; ComponentLink4URL: Product URL:http://www.analog.com/en/special-linear-functions/voltage-references/adr395/products/product.html
footprint ADI-UJ-5_N (SOT23, 5-Leads, Body 2.9x1.6mm, Pitch 0.95mm, IPC Medium Density)
footprint ADI-UJ-5_L (SOT23, 5-Leads, Body 2.9x1.6mm, Pitch 0.95mm, IPC High Density)
footprint ADI-UJ-5_M (SOT23, 5-Leads, Body 2.9x1.6mm, Pitch 0.95mm, IPC Low Density)
pins: 1 ~{SHDN} (in), 2 VIN (in), 3 VOUT(SENSE) (in), 4 VOUT(FORCE) (hiz), 5 GND (power)

## ADR420ARMZ
designator U?
Ultraprecision, Low Noise, XFET(R) Voltage Reference, 2.048 V Output, 4 to 18 V Supply, Industrial, 8-pin SOP (RM-8), Tube; Manufacturer: Analog Devices; PartNumber: ADR420ARMZ; Max V Supply (V): 18; Min V Supply (V): 4; Ref Out TC (ppm/C): 2; Vout: 2.048V; DatasheetVersion: Rev. I; PackageVersion: Aug-05; PackageReference: RM-8; PackageDescription: 8-Pin Mini Small Outline Package, Body 3 x 3 mm, Pitch 0.65 mm; Supplier 1: Digi-Key; Supplier Part Number 1: ADR420ARMZ-ND; Supplier 2: Mouser; Supplier Part Number 2: 584-ADR420ARMZ; Packing: Tube; Operating Temp Range: -40 to 125 degC; Mounting Technology: Surface Mount; Code_JEDEC: MO-187-AA; ComponentLink1Description: Manufacturer URL; ComponentLink1URL: http://www.analog.com/en/index.html; ComponentLink2Description: Datasheet; ComponentLink2URL: http://www.analog.com/static/imported-files/data_sheets/ADR420_421_423_425.pdf; ComponentLink3Description: Package Specification; ComponentLink3URL: http://www.analog.com/static/imported-files/packages/PKG_PDF/MSOP%28RM%29/RM_8.pdf; ComponentLink4Description: URL Link1; ComponentLink4URL: Product URL:http://www.analog.com/en/special-linear-functions/voltage-references/adr420/products/product.html
footprint ADI-RM-8_N (SOP, 8-Leads, Body 3x3mm, Pitch 0.65mm, IPC Medium Density)
footprint ADI-RM-8_L (SOP, 8-Leads, Body 3x3mm, Pitch 0.65mm, IPC High Density)
footprint ADI-RM-8_M (SOP, 8-Leads, Body 3x3mm, Pitch 0.65mm, IPC Low Density)
part A pins: 2 VIN (power), 4 GND (power), 5 TRIM (in), 6 VOUT (power)
part B pins: 1 TP, 3 NC, 7 NC, 8 TP

## ADR420ARMZ-REEL7
designator U?
Ultraprecision, Low Noise, XFET(R) Voltage Reference, 2.048 V Output, 4 to 18 V Supply, Industrial, 8-pin SOP (RM-8), Reel; Manufacturer: Analog Devices; PartNumber: ADR420ARMZ-REEL7; Max V Supply (V): 18; Min V Supply (V): 4; Ref Out TC (ppm/C): 2; Vout: 2.048V; DatasheetVersion: Rev. I; PackageVersion: Aug-05; PackageReference: RM-8; PackageDescription: 8-Pin Mini Small Outline Package, Body 3 x 3 mm, Pitch 0.65 mm; Supplier 1: Digi-Key; Supplier Part Number 1: ADR420ARMZ-REEL7-ND; Supplier 2: Mouser; Supplier Part Number 2: 584-ADR420ARMZ-R7; Packing: Reel; Operating Temp Range: -40 to 125 degC; Mounting Technology: Surface Mount; Code_JEDEC: MO-187-AA; ComponentLink1Description: Manufacturer URL; ComponentLink1URL: http://www.analog.com/en/index.html; ComponentLink2Description: Datasheet; ComponentLink2URL: http://www.analog.com/static/imported-files/data_sheets/ADR420_421_423_425.pdf; ComponentLink3Description: Package Specification; ComponentLink3URL: http://www.analog.com/static/imported-files/packages/PKG_PDF/MSOP%28RM%29/RM_8.pdf; ComponentLink4Description: URL Link1; ComponentLink4URL: Product URL:http://www.analog.com/en/special-linear-functions/voltage-references/adr420/products/product.html
footprint ADI-RM-8_N (SOP, 8-Leads, Body 3x3mm, Pitch 0.65mm, IPC Medium Density)
footprint ADI-RM-8_L (SOP, 8-Leads, Body 3x3mm, Pitch 0.65mm, IPC High Density)
footprint ADI-RM-8_M (SOP, 8-Leads, Body 3x3mm, Pitch 0.65mm, IPC Low Density)
part A pins: 2 VIN (power), 4 GND (power), 5 TRIM (in), 6 VOUT (power)
part B pins: 1 TP, 3 NC, 7 NC, 8 TP

## ADR420ARZ
designator U?
Ultraprecision, Low Noise, XFET(R) Voltage Reference, 2.048 V Output, 4 to 18 V Supply, Industrial, 8-pin SOIC (R-8), Tube; Manufacturer: Analog Devices; PartNumber: ADR420ARZ; Max V Supply (V): 18; Min V Supply (V): 4; Ref Out TC (ppm/C): 2; Vout: 2.048V; DatasheetVersion: Rev. I; PackageVersion: 060506-A, 06/2006; PackageReference: R-8; PackageDescription: 8-Pin Standard Small Outline Package, Body 4.9 x 3.9 mm, Pitch 1.27 mm; Supplier 1: Digi-Key; Supplier Part Number 1: ADR420ARZ-ND; Supplier 2: Farnell; Supplier Part Number 2: 9426086; Supplier 3: Mouser; Supplier Part Number 3: 584-ADR420ARZ; Packing: Tube; Operating Temp Range: -40 to 125 degC; Mounting Technology: Surface Mount; Code_JEDEC: MS-012-AA; ComponentLink1Description: Manufacturer URL; ComponentLink1URL: http://www.analog.com/en/index.html; ComponentLink2Description: Datasheet; ComponentLink2URL: http://www.analog.com/static/imported-files/data_sheets/ADR420_421_423_425.pdf; ComponentLink3Description: Package Specification; ComponentLink3URL: http://www.analog.com/static/imported-files/packages/PKG_PDF/SOIC_Narrow%20(R)/R_8.pdf; ComponentLink4Description: URL Link1; ComponentLink4URL: Product URL:http://www.analog.com/en/special-linear-functions/voltage-references/adr420/products/product.html
footprint ADI-R-8_N (SOIC, 8-Leads, Body 4.9x3.9mm, Pitch 1.27mm, IPC Medium Density)
footprint ADI-R-8_L (SOIC, 8-Leads, Body 4.9x3.9mm, Pitch 1.27mm, IPC High Density)
footprint ADI-R-8_M (SOIC, 8-Leads, Body 4.9x3.9mm, Pitch 1.27mm, IPC Low Density)
part A pins: 2 VIN (power), 4 GND (power), 5 TRIM (in), 6 VOUT (power)
part B pins: 1 TP, 3 NC, 7 NC, 8 TP

## ADR420ARZ-REEL7
designator U?
Ultraprecision, Low Noise, XFET(R) Voltage Reference, 2.048 V Output, 4 to 18 V Supply, Industrial, 8-pin SOIC (R-8), Reel; Manufacturer: Analog Devices; PartNumber: ADR420ARZ-REEL7; Max V Supply (V): 18; Min V Supply (V): 4; Ref Out TC (ppm/C): 2; Vout: 2.048V; DatasheetVersion: Rev. I; PackageVersion: 060506-A, 06/2006; PackageReference: R-8; PackageDescription: 8-Pin Standard Small Outline Package, Body 4.9 x 3.9 mm, Pitch 1.27 mm; Supplier 1: Digi-Key; Supplier Part Number 1: ADR420ARZ-REEL7-ND; Supplier 2: Mouser; Supplier Part Number 2: 584-ADR420ARZ-R7; Packing: Reel; Operating Temp Range: -40 to 125 degC; Mounting Technology: Surface Mount; Code_JEDEC: MS-012-AA; ComponentLink1Description: Manufacturer URL; ComponentLink1URL: http://www.analog.com/en/index.html; ComponentLink2Description: Datasheet; ComponentLink2URL: http://www.analog.com/static/imported-files/data_sheets/ADR420_421_423_425.pdf; ComponentLink3Description: Package Specification; ComponentLink3URL: http://www.analog.com/static/imported-files/packages/PKG_PDF/SOIC_Narrow%20(R)/R_8.pdf; ComponentLink4Description: URL Link1; ComponentLink4URL: Product URL:http://www.analog.com/en/special-linear-functions/voltage-references/adr420/products/product.html
footprint ADI-R-8_N (SOIC, 8-Leads, Body 4.9x3.9mm, Pitch 1.27mm, IPC Medium Density)
footprint ADI-R-8_L (SOIC, 8-Leads, Body 4.9x3.9mm, Pitch 1.27mm, IPC High Density)
footprint ADI-R-8_M (SOIC, 8-Leads, Body 4.9x3.9mm, Pitch 1.27mm, IPC Low Density)
part A pins: 2 VIN (power), 4 GND (power), 5 TRIM (in), 6 VOUT (power)
part B pins: 1 TP, 3 NC, 7 NC, 8 TP

## ADR420BRZ
designator U?
Ultraprecision, Low Noise, XFET(R) Voltage Reference, 2.048 V Output, 4 to 18 V Supply, Industrial, 8-pin SOIC (R-8), Tube; Manufacturer: Analog Devices; PartNumber: ADR420BRZ; Max V Supply (V): 18; Min V Supply (V): 4; Ref Out TC (ppm/C): 1; Vout: 2.048V; DatasheetVersion: Rev. I; PackageVersion: 060506-A, 06/2006; PackageReference: R-8; PackageDescription: 8-Pin Standard Small Outline Package, Body 4.9 x 3.9 mm, Pitch 1.27 mm; Supplier 1: Digi-Key; Supplier Part Number 1: ADR420BRZ-ND; Supplier 2: Farnell; Supplier Part Number 2: 2377051; Supplier 3: Farnell; Supplier Part Number 3: 1319328; Supplier 4: Mouser; Supplier Part Number 4: 584-ADR420BRZ; Packing: Tube; Operating Temp Range: -40 to 125 degC; Mounting Technology: Surface Mount; Code_JEDEC: MS-012-AA; ComponentLink1Description: Manufacturer URL; ComponentLink1URL: http://www.analog.com/en/index.html; ComponentLink2Description: Datasheet; ComponentLink2URL: http://www.analog.com/static/imported-files/data_sheets/ADR420_421_423_425.pdf; ComponentLink3Description: Package Specification; ComponentLink3URL: http://www.analog.com/static/imported-files/packages/PKG_PDF/SOIC_Narrow%20(R)/R_8.pdf; ComponentLink4Description: URL Link1; ComponentLink4URL: Product URL:http://www.analog.com/en/special-linear-functions/voltage-references/adr420/products/product.html
footprint ADI-R-8_N (SOIC, 8-Leads, Body 4.9x3.9mm, Pitch 1.27mm, IPC Medium Density)
footprint ADI-R-8_L (SOIC, 8-Leads, Body 4.9x3.9mm, Pitch 1.27mm, IPC High Density)
footprint ADI-R-8_M (SOIC, 8-Leads, Body 4.9x3.9mm, Pitch 1.27mm, IPC Low Density)
part A pins: 2 VIN (power), 4 GND (power), 5 TRIM (in), 6 VOUT (power)
part B pins: 1 TP, 3 NC, 7 NC, 8 TP

## ADR420BRZ-REEL7
designator U?
Ultraprecision, Low Noise, XFET(R) Voltage Reference, 2.048 V Output, 4 to 18 V Supply, Industrial, 8-pin SOIC (R-8), Reel; Manufacturer: Analog Devices; PartNumber: ADR420BRZ-REEL7; Max V Supply (V): 18; Min V Supply (V): 4; Ref Out TC (ppm/C): 1; Vout: 2.048V; DatasheetVersion: Rev. I; PackageVersion: 060506-A, 06/2006; PackageReference: R-8; PackageDescription: 8-Pin Standard Small Outline Package, Body 4.9 x 3.9 mm, Pitch 1.27 mm; Supplier 1: Digi-Key; Supplier Part Number 1: ADR420BRZ-REEL7-ND; Supplier 2: Mouser; Supplier Part Number 2: 584-ADR420BRZ-R7; Packing: Reel; Operating Temp Range: -40 to 125 degC; Mounting Technology: Surface Mount; Code_JEDEC: MS-012-AA; ComponentLink1Description: Manufacturer URL; ComponentLink1URL: http://www.analog.com/en/index.html; ComponentLink2Description: Datasheet; ComponentLink2URL: http://www.analog.com/static/imported-files/data_sheets/ADR420_421_423_425.pdf; ComponentLink3Description: Package Specification; ComponentLink3URL: http://www.analog.com/static/imported-files/packages/PKG_PDF/SOIC_Narrow%20(R)/R_8.pdf; ComponentLink4Description: URL Link1; ComponentLink4URL: Product URL:http://www.analog.com/en/special-linear-functions/voltage-references/adr420/products/product.html
footprint ADI-R-8_N (SOIC, 8-Leads, Body 4.9x3.9mm, Pitch 1.27mm, IPC Medium Density)
footprint ADI-R-8_L (SOIC, 8-Leads, Body 4.9x3.9mm, Pitch 1.27mm, IPC High Density)
footprint ADI-R-8_M (SOIC, 8-Leads, Body 4.9x3.9mm, Pitch 1.27mm, IPC Low Density)
part A pins: 2 VIN (power), 4 GND (power), 5 TRIM (in), 6 VOUT (power)
part B pins: 1 TP, 3 NC, 7 NC, 8 TP

## ADR421AR
designator U?
Ultraprecision, Low Noise, XFET(R) Voltage Reference, 2.5 V Output, 4.5 to 18 V Supply, Industrial, 8-pin SOIC (R-8), Tube; Manufacturer: Analog Devices; PartNumber: ADR421AR; Max V Supply (V): 18; Min V Supply (V): 4.5; Ref Out TC (ppm/C): 2; Vout: 2.5V; DatasheetVersion: Rev. I; PackageVersion: 060506-A, 06/2006; PackageReference: R-8; PackageDescription: 8-Pin Standard Small Outline Package, Body 4.9 x 3.9 mm, Pitch 1.27 mm; Supplier 1: Digi-Key; Supplier Part Number 1: ADR421AR-ND; Supplier 2: Mouser; Supplier Part Number 2: N/A; Packing: Tube; Operating Temp Range: -40 to 125 degC; Mounting Technology: Surface Mount; Code_JEDEC: MS-012-AA; ComponentLink1Description: Manufacturer URL; ComponentLink1URL: http://www.analog.com/en/index.html; ComponentLink2Description: Datasheet; ComponentLink2URL: http://www.analog.com/static/imported-files/data_sheets/ADR420_421_423_425.pdf; ComponentLink3Description: Package Specification; ComponentLink3URL: http://www.analog.com/static/imported-files/packages/PKG_PDF/SOIC_Narrow%20(R)/R_8.pdf; ComponentLink4Description: URL Link1; ComponentLink4URL: Product URL:http://www.analog.com/en/special-linear-functions/voltage-references/adr421/products/product.html
footprint ADI-R-8_N (SOIC, 8-Leads, Body 4.9x3.9mm, Pitch 1.27mm, IPC Medium Density)
footprint ADI-R-8_L (SOIC, 8-Leads, Body 4.9x3.9mm, Pitch 1.27mm, IPC High Density)
footprint ADI-R-8_M (SOIC, 8-Leads, Body 4.9x3.9mm, Pitch 1.27mm, IPC Low Density)
part A pins: 2 VIN (power), 4 GND (power), 5 TRIM (in), 6 VOUT (power)
part B pins: 1 TP, 3 NC, 7 NC, 8 TP

## ADR421ARMZ
designator U?
Ultraprecision, Low Noise, XFET(R) Voltage Reference, 2.5 V Output, 4.5 to 18 V Supply, Industrial, 8-pin SOP (RM-8), Tube; Manufacturer: Analog Devices; PartNumber: ADR421ARMZ; Max V Supply (V): 18; Min V Supply (V): 4.5; Ref Out TC (ppm/C): 2; Vout: 2.5V; DatasheetVersion: Rev. I; PackageVersion: Aug-05; PackageReference: RM-8; PackageDescription: 8-Pin Mini Small Outline Package, Body 3 x 3 mm, Pitch 0.65 mm; Supplier 1: Digi-Key; Supplier Part Number 1: ADR421ARMZ-ND; Supplier 2: Farnell; Supplier Part Number 2: 2094232; Supplier 3: Mouser; Supplier Part Number 3: 584-ADR421ARMZ; Packing: Tube; Operating Temp Range: -40 to 125 degC; Mounting Technology: Surface Mount; Code_JEDEC: MO-187-AA; ComponentLink1Description: Manufacturer URL; ComponentLink1URL: http://www.analog.com/en/index.html; ComponentLink2Description: Datasheet; ComponentLink2URL: http://www.analog.com/static/imported-files/data_sheets/ADR420_421_423_425.pdf; ComponentLink3Description: Package Specification; ComponentLink3URL: http://www.analog.com/static/imported-files/packages/PKG_PDF/MSOP%28RM%29/RM_8.pdf; ComponentLink4Description: URL Link1; ComponentLink4URL: Product URL:http://www.analog.com/en/special-linear-functions/voltage-references/adr421/products/product.html
footprint ADI-RM-8_N (SOP, 8-Leads, Body 3x3mm, Pitch 0.65mm, IPC Medium Density)
footprint ADI-RM-8_L (SOP, 8-Leads, Body 3x3mm, Pitch 0.65mm, IPC High Density)
footprint ADI-RM-8_M (SOP, 8-Leads, Body 3x3mm, Pitch 0.65mm, IPC Low Density)
part A pins: 2 VIN (power), 4 GND (power), 5 TRIM (in), 6 VOUT (power)
part B pins: 1 TP, 3 NC, 7 NC, 8 TP

## ADR421ARMZ-REEL7
designator U?
Ultraprecision, Low Noise, XFET(R) Voltage Reference, 2.5 V Output, 4.5 to 18 V Supply, Industrial, 8-pin SOP (RM-8), Reel; Manufacturer: Analog Devices; PartNumber: ADR421ARMZ-REEL7; Max V Supply (V): 18; Min V Supply (V): 4.5; Ref Out TC (ppm/C): 2; Vout: 2.5V; DatasheetVersion: Rev. I; PackageVersion: Aug-05; PackageReference: RM-8; PackageDescription: 8-Pin Mini Small Outline Package, Body 3 x 3 mm, Pitch 0.65 mm; Supplier 1: Digi-Key; Supplier Part Number 1: ADR421ARMZ-REEL7-ND; Supplier 2: Mouser; Supplier Part Number 2: 584-ADR421ARMZ-R7; Packing: Reel; Operating Temp Range: -40 to 125 degC; Mounting Technology: Surface Mount; Code_JEDEC: MO-187-AA; ComponentLink1Description: Manufacturer URL; ComponentLink1URL: http://www.analog.com/en/index.html; ComponentLink2Description: Datasheet; ComponentLink2URL: http://www.analog.com/static/imported-files/data_sheets/ADR420_421_423_425.pdf; ComponentLink3Description: Package Specification; ComponentLink3URL: http://www.analog.com/static/imported-files/packages/PKG_PDF/MSOP%28RM%29/RM_8.pdf; ComponentLink4Description: URL Link1; ComponentLink4URL: Product URL:http://www.analog.com/en/special-linear-functions/voltage-references/adr421/products/product.html
footprint ADI-RM-8_N (SOP, 8-Leads, Body 3x3mm, Pitch 0.65mm, IPC Medium Density)
footprint ADI-RM-8_L (SOP, 8-Leads, Body 3x3mm, Pitch 0.65mm, IPC High Density)
footprint ADI-RM-8_M (SOP, 8-Leads, Body 3x3mm, Pitch 0.65mm, IPC Low Density)
part A pins: 2 VIN (power), 4 GND (power), 5 TRIM (in), 6 VOUT (power)
part B pins: 1 TP, 3 NC, 7 NC, 8 TP